# Altium schematic symbol library MCU_ST_STM32L4+.SchLib: 37 symbols (part 2 of 2)
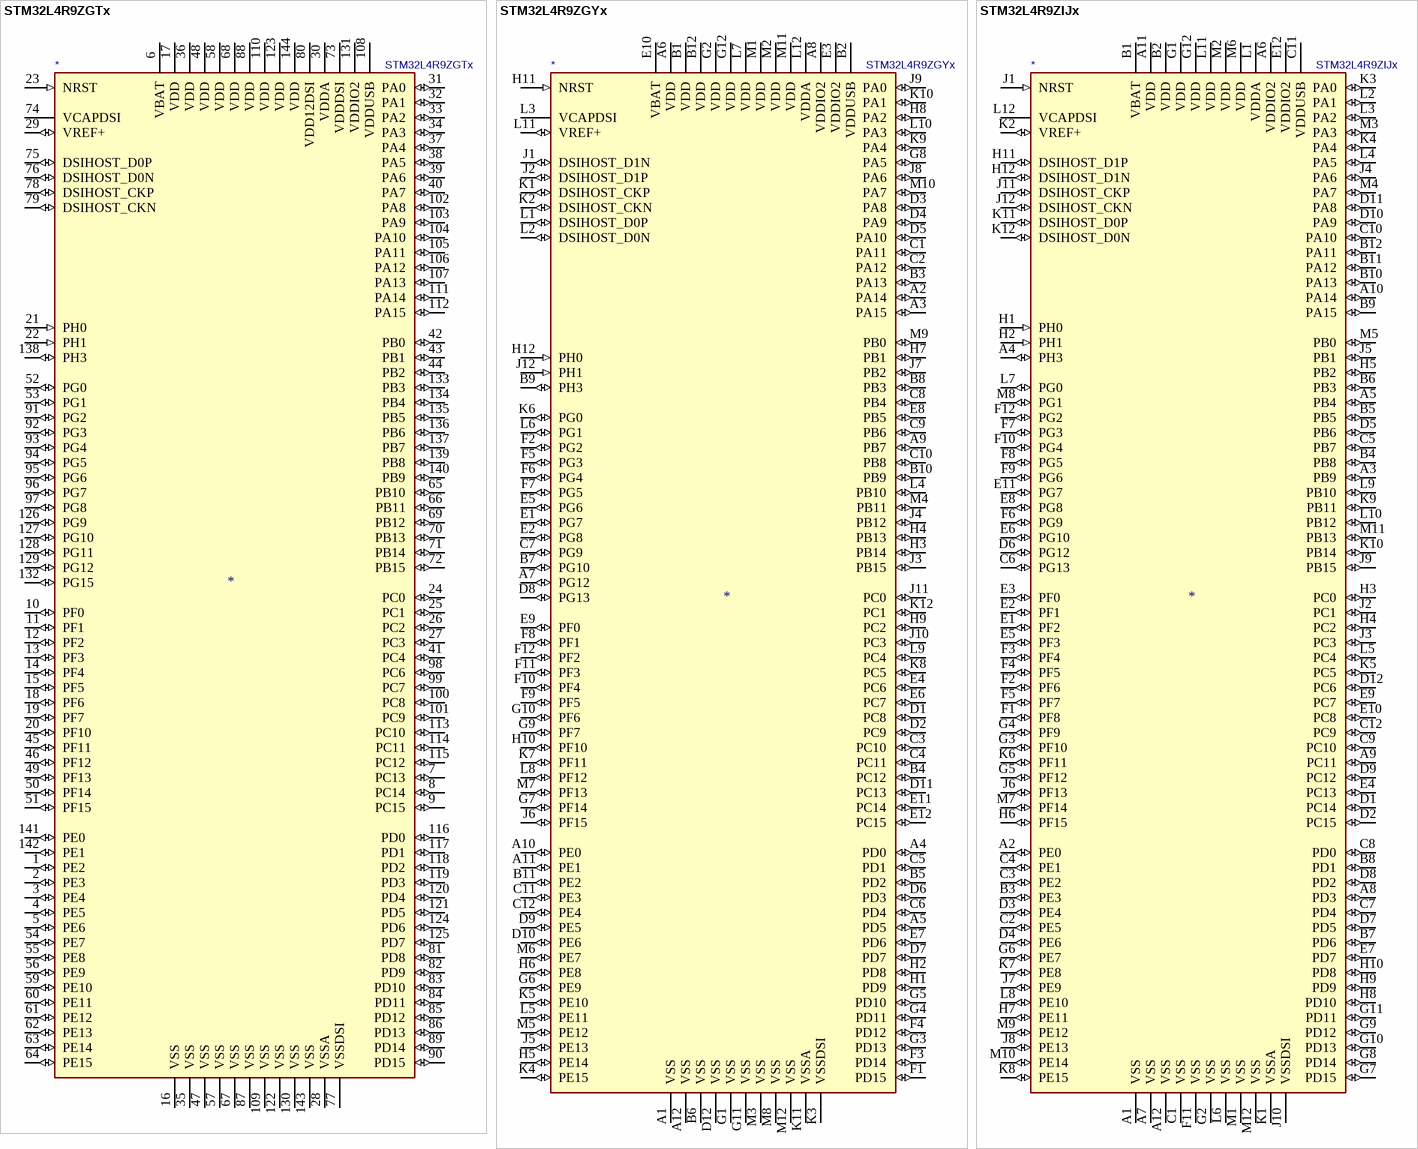
[diagram p12: symbols STM32L4R9ZGTx to STM32L4R9ZIJx]

## STM32L4R9ZGYx
designator *  value STM32L4R9ZGYx
ki_keywords: ARM Cortex-M4 STM32L4+ STM32L4R9/S9; ki_description: ARM Cortex-M4 MCU, 1024KB flash, 640KB RAM, 120MHz, 1.71-3.6V, 110 GPIO, WLCSP-144; ki_fp_filters: ST_WLCSP*Die470*; Footprint: Package_CSP:ST_WLCSP-144_Die470; Supplier: http://www.st.com/st-web-ui/static/active/en/resource/technical/document/datasheet/DM00366448.pdf
footprint ST_WLCSP-144_Die470
pins: A1 VSS (power), A2 PA14 (io), A3 PA15 (io), A4 PD0 (io), A5 PD5 (io), A6 VDD (power), A7 PG12 (io), A8 VDDIO2 (power), A9 PB7 (io), A10 PE0 (io), A11 PE1 (io), A12 VSS (power), B1 VDD (power), B2 VDDUSB (power), B3 PA13 (io), B4 PC12 (io), B5 PD2 (io), B6 VSS (power), B7 PG10 (io), B8 PB3 (io), B9 PH3 (io), B10 PB9 (io), B11 PE2 (io), B12 VDD (power), C1 PA11 (io), C2 PA12 (io), C3 PC10 (io), C4 PC11 (io), C5 PD1 (io), C6 PD4 (io), C7 PG9 (io), C8 PB4 (io), C9 PB6 (io), C10 PB8 (io), C11 PE3 (io), C12 PE4 (io), D1 PC8 (io), D2 PC9 (io), D3 PA8 (io), D4 PA9 (io), D5 PA10 (io), D6 PD3 (io), D7 PD7 (io), D8 PG13 (io), D9 PE5 (io), D10 PE6 (io), D11 PC13 (io), D12 VSS (power), E1 PG7 (io), E2 PG8 (io), E3 VDDIO2 (power), E4 PC6 (io), E5 PG6 (io), E6 PC7 (io), E7 PD6 (io), E8 PB5 (io), E9 PF0 (io), E10 VBAT (power), E11 PC14 (io), E12 PC15 (io), F1 PD15 (io), F2 PG2 (io), F3 PD14 (io), F4 PD12 (io), F5 PG3 (io), F6 PG4 (io), F7 PG5 (io), F8 PF1 (io), F9 PF5 (io), F10 PF4 (io), F11 PF3 (io), F12 PF2 (io), G1 VSS (power), G2 VDD (power), G3 PD13 (io), G4 PD11 (io), G5 PD10 (io), G6 PE9 (io), G7 PF14 (io), G8 PA5 (io), G9 PF7 (io), G10 PF6 (io), G11 VSS (power), G12 VDD (power), H1 PD9 (io), H2 PD8 (io), H3 PB14 (io), H4 PB13 (io), H5 PE14 (io), H6 PE8 (io), H7 PB1 (io), H8 PA2 (io), H9 PC2 (io), H10 PF10 (io), H11 NRST (in), H12 PH0 (in), J1 DSIHOST_D1N (io), J2 DSIHOST_D1P (io), J3 PB15 (io), J4 PB12 (io), J5 PE13 (io), J6 PF15 (io), J7 PB2 (io), J8 PA6 (io), J9 PA0 (io), J10 PC3 (io), J11 PC0 (io), J12 PH1 (in), K1 DSIHOST_CKP (io), K2 DSIHOST_CKN (io), K3 VSSDSI (power), K4 PE15 (io), K5 PE10 (io), K6 PG0 (io), K7 PF11 (io), K8 PC5 (io), K9 PA4 (io), K10 PA1 (io), K11 VSSA (power), K12 PC1 (io), L1 DSIHOST_D0P (io), L2 DSIHOST_D0N (io), L3 VCAPDSI (power), L4 PB10 (io), L5 PE11 (io), L6 PG1 (io), L7 VDD (power), L8 PF12 (io), L9 PC4 (io), L10 PA3 (io), L11 VREF+ (io), L12 VDDA (power), M1 VDD (power), M2 VDD (power), M3 VSS (power), M4 PB11 (io), M5 PE12 (io), M6 PE7 (io), M7 PF13 (io), M8 VSS (power), M9 PB0 (io), M10 PA7 (io), M11 VDD (power), M12 VSS (power)

## STM32L4R9ZIJx
designator *  value STM32L4R9ZIJx
ki_keywords: ARM Cortex-M4 STM32L4+ STM32L4R9/S9; ki_description: ARM Cortex-M4 MCU, 2048KB flash, 640KB RAM, 120MHz, 1.71-3.6V, 112 GPIO, UFBGA-144; ki_fp_filters: UFBGA*10x10mm*Layout12x12*P0.8mm*; Footprint: Package_BGA:UFBGA-144_10x10mm_Layout12x12_P0.8mm; Supplier: http://www.st.com/st-web-ui/static/active/en/resource/technical/document/datasheet/DM00366448.pdf
footprint UFBGA-144_10x10mm_Layout12x12_P0.8mm
pins: A1 VSS (power), A2 PE0 (io), A3 PB9 (io), A4 PH3 (io), A5 PB4 (io), A6 VDDIO2 (power), A7 VSS (power), A8 PD3 (io), A9 PC11 (io), A10 PA14 (io), A11 VDD (power), A12 VSS (power), B1 VBAT (power), B2 VDD (power), B3 PE3 (io), B4 PB8 (io), B5 PB5 (io), B6 PB3 (io), B7 PD6 (io), B8 PD1 (io), B9 PA15 (io), B10 PA13 (io), B11 PA12 (io), B12 PA11 (io), C1 VSS (power), C2 PE5 (io), C3 PE2 (io), C4 PE1 (io), C5 PB7 (io), C6 PG13 (io), C7 PD4 (io), C8 PD0 (io), C9 PC10 (io), C10 PA10 (io), C11 VDDUSB (power), C12 PC9 (io), D1 PC14 (io), D2 PC15 (io), D3 PE4 (io), D4 PE6 (io), D5 PB6 (io), D6 PG12 (io), D7 PD5 (io), D8 PD2 (io), D9 PC12 (io), D10 PA9 (io), D11 PA8 (io), D12 PC6 (io), E1 PF2 (io), E2 PF1 (io), E3 PF0 (io), E4 PC13 (io), E5 PF3 (io), E6 PG10 (io), E7 PD7 (io), E8 PG8 (io), E9 PC7 (io), E10 PC8 (io), E11 PG7 (io), E12 VDDIO2 (power), F1 PF8 (io), F2 PF6 (io), F3 PF4 (io), F4 PF5 (io), F5 PF7 (io), F6 PG9 (io), F7 PG3 (io), F8 PG5 (io), F9 PG6 (io), F10 PG4 (io), F11 VSS (power), F12 PG2 (io), G1 VDD (power), G2 VSS (power), G3 PF10 (io), G4 PF9 (io), G5 PF12 (io), G6 PE7 (io), G7 PD15 (io), G8 PD14 (io), G9 PD12 (io), G10 PD13 (io), G11 PD11 (io), G12 VDD (power), H1 PH0 (in), H2 PH1 (in), H3 PC0 (io), H4 PC2 (io), H5 PB2 (io), H6 PF15 (io), H7 PE11 (io), H8 PD10 (io), H9 PD9 (io), H10 PD8 (io), H11 DSIHOST_D1P (io), H12 DSIHOST_D1N (io), J1 NRST (in), J2 PC1 (io), J3 PC3 (io), J4 PA6 (io), J5 PB1 (io), J6 PF13 (io), J7 PE9 (io), J8 PE13 (io), J9 PB15 (io), J10 VSSDSI (power), J11 DSIHOST_CKP (io), J12 DSIHOST_CKN (io), K1 VSSA (power), K2 VREF+ (io), K3 PA0 (io), K4 PA4 (io), K5 PC5 (io), K6 PF11 (io), K7 PE8 (io), K8 PE15 (io), K9 PB11 (io), K10 PB14 (io), K11 DSIHOST_D0P (io), K12 DSIHOST_D0N (io), L1 VDDA (power), L2 PA1 (io), L3 PA2 (io), L4 PA5 (io), L5 PC4 (io), L6 VSS (power), L7 PG0 (io), L8 PE10 (io), L9 PB10 (io), L10 PB12 (io), L11 VDD (power), L12 VCAPDSI (power), M1 VSS (power), M2 VDD (power), M3 PA3 (io), M4 PA7 (io), M5 PB0 (io), M6 VDD (power), M7 PF14 (io), M8 PG1 (io), M9 PE12 (io), M10 PE14 (io), M11 PB13 (io), M12 VSS (power)

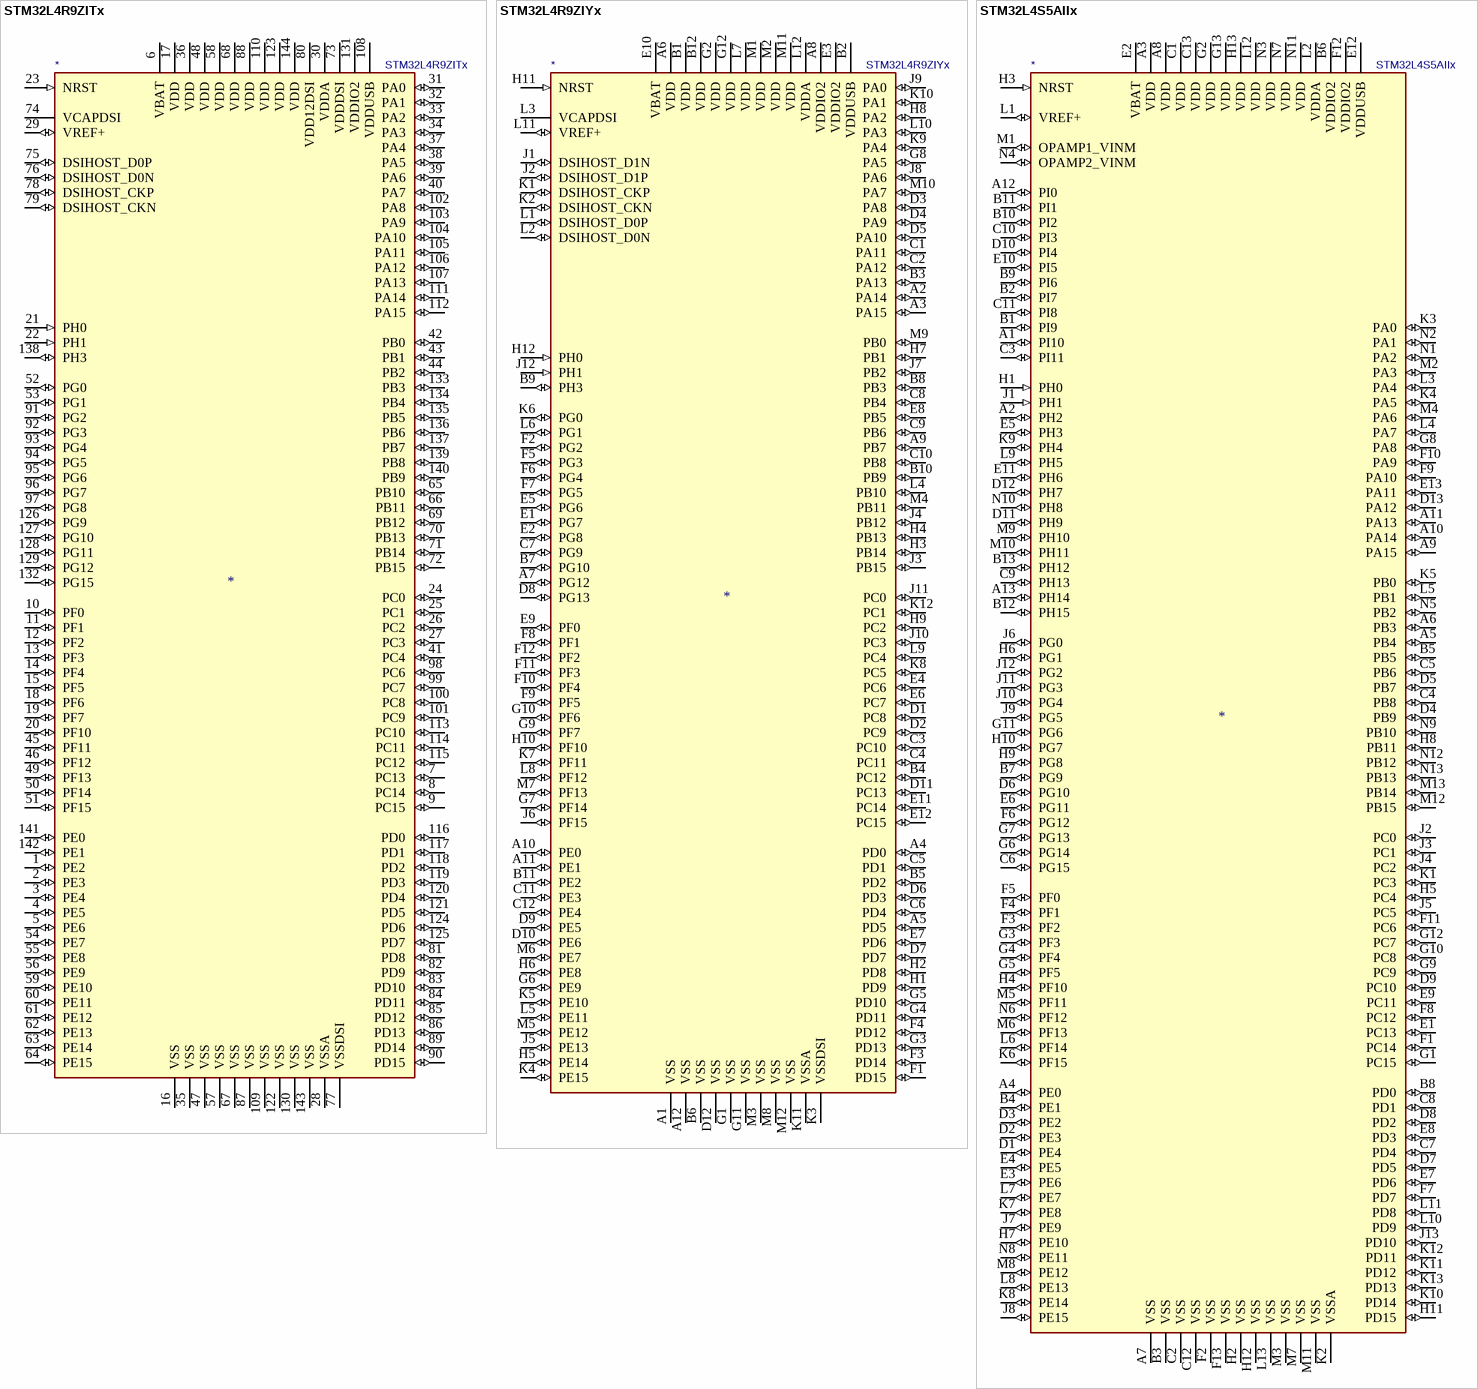
[diagram p7: symbols STM32L4R9ZITx to STM32L4S5AIIx]

## STM32L4R9ZITx
designator *  value STM32L4R9ZITx
ki_keywords: ARM Cortex-M4 STM32L4+ STM32L4R9/S9; ki_description: ARM Cortex-M4 MCU, 2048KB flash, 640KB RAM, 120MHz, 1.71-3.6V, 110 GPIO, LQFP-144; ki_fp_filters: LQFP*20x20mm*P0.5mm*; Footprint: Package_QFP:LQFP-144_20x20mm_P0.5mm; Supplier: http://www.st.com/st-web-ui/static/active/en/resource/technical/document/datasheet/DM00366448.pdf
footprint LQFP-144_20x20mm_P0.5mm
pins: 1 PE2 (io), 2 PE3 (io), 3 PE4 (io), 4 PE5 (io), 5 PE6 (io), 6 VBAT (power), 7 PC13 (io), 8 PC14 (io), 9 PC15 (io), 10 PF0 (io), 11 PF1 (io), 12 PF2 (io), 13 PF3 (io), 14 PF4 (io), 15 PF5 (io), 16 VSS (power), 17 VDD (power), 18 PF6 (io), 19 PF7 (io), 20 PF10 (io), 21 PH0 (in), 22 PH1 (in), 23 NRST (in), 24 PC0 (io), 25 PC1 (io), 26 PC2 (io), 27 PC3 (io), 28 VSSA (power), 29 VREF+ (io), 30 VDDA (power), 31 PA0 (io), 32 PA1 (io), 33 PA2 (io), 34 PA3 (io), 35 VSS (power), 36 VDD (power), 37 PA4 (io), 38 PA5 (io), 39 PA6 (io), 40 PA7 (io), 41 PC4 (io), 42 PB0 (io), 43 PB1 (io), 44 PB2 (io), 45 PF11 (io), 46 PF12 (io), 47 VSS (power), 48 VDD (power), 49 PF13 (io), 50 PF14 (io), 51 PF15 (io), 52 PG0 (io), 53 PG1 (io), 54 PE7 (io), 55 PE8 (io), 56 PE9 (io), 57 VSS (power), 58 VDD (power), 59 PE10 (io), 60 PE11 (io), 61 PE12 (io), 62 PE13 (io), 63 PE14 (io), 64 PE15 (io), 65 PB10 (io), 66 PB11 (io), 67 VSS (power), 68 VDD (power), 69 PB12 (io), 70 PB13 (io), 71 PB14 (io), 72 PB15 (io), 73 VDDDSI (power), 74 VCAPDSI (power), 75 DSIHOST_D0P (io), 76 DSIHOST_D0N (io), 77 VSSDSI (power), 78 DSIHOST_CKP (io), 79 DSIHOST_CKN (io), 80 VDD12DSI (power), 81 PD8 (io), 82 PD9 (io), 83 PD10 (io), 84 PD11 (io), 85 PD12 (io), 86 PD13 (io), 87 VSS (power), 88 VDD (power), 89 PD14 (io), 90 PD15 (io), 91 PG2 (io), 92 PG3 (io), 93 PG4 (io), 94 PG5 (io), 95 PG6 (io), 96 PG7 (io), 97 PG8 (io), 98 PC6 (io), 99 PC7 (io), 100 PC8 (io), 101 PC9 (io), 102 PA8 (io), 103 PA9 (io), 104 PA10 (io), 105 PA11 (io), 106 PA12 (io), 107 PA13 (io), 108 VDDUSB (power), 109 VSS (power), 110 VDD (power), 111 PA14 (io), 112 PA15 (io), 113 PC10 (io), 114 PC11 (io), 115 PC12 (io), 116 PD0 (io), 117 PD1 (io), 118 PD2 (io), 119 PD3 (io), 120 PD4 (io), 121 PD5 (io), 122 VSS (power), 123 VDD (power), 124 PD6 (io), 125 PD7 (io), 126 PG9 (io), 127 PG10 (io), 128 PG11 (io), 129 PG12 (io), 130 VSS (power), 131 VDDIO2 (power), 132 PG15 (io), 133 PB3 (io), 134 PB4 (io), 135 PB5 (io), 136 PB6 (io), 137 PB7 (io), 138 PH3 (io), 139 PB8 (io), 140 PB9 (io), 141 PE0 (io), 142 PE1 (io), 143 VSS (power), 144 VDD (power)

## STM32L4R9ZIYx
designator *  value STM32L4R9ZIYx
ki_keywords: ARM Cortex-M4 STM32L4+ STM32L4R9/S9; ki_description: ARM Cortex-M4 MCU, 2048KB flash, 640KB RAM, 120MHz, 1.71-3.6V, 110 GPIO, WLCSP-144; ki_fp_filters: ST_WLCSP*Die470*; Footprint: Package_CSP:ST_WLCSP-144_Die470; Supplier: http://www.st.com/st-web-ui/static/active/en/resource/technical/document/datasheet/DM00366448.pdf
footprint ST_WLCSP-144_Die470
pins: A1 VSS (power), A2 PA14 (io), A3 PA15 (io), A4 PD0 (io), A5 PD5 (io), A6 VDD (power), A7 PG12 (io), A8 VDDIO2 (power), A9 PB7 (io), A10 PE0 (io), A11 PE1 (io), A12 VSS (power), B1 VDD (power), B2 VDDUSB (power), B3 PA13 (io), B4 PC12 (io), B5 PD2 (io), B6 VSS (power), B7 PG10 (io), B8 PB3 (io), B9 PH3 (io), B10 PB9 (io), B11 PE2 (io), B12 VDD (power), C1 PA11 (io), C2 PA12 (io), C3 PC10 (io), C4 PC11 (io), C5 PD1 (io), C6 PD4 (io), C7 PG9 (io), C8 PB4 (io), C9 PB6 (io), C10 PB8 (io), C11 PE3 (io), C12 PE4 (io), D1 PC8 (io), D2 PC9 (io), D3 PA8 (io), D4 PA9 (io), D5 PA10 (io), D6 PD3 (io), D7 PD7 (io), D8 PG13 (io), D9 PE5 (io), D10 PE6 (io), D11 PC13 (io), D12 VSS (power), E1 PG7 (io), E2 PG8 (io), E3 VDDIO2 (power), E4 PC6 (io), E5 PG6 (io), E6 PC7 (io), E7 PD6 (io), E8 PB5 (io), E9 PF0 (io), E10 VBAT (power), E11 PC14 (io), E12 PC15 (io), F1 PD15 (io), F2 PG2 (io), F3 PD14 (io), F4 PD12 (io), F5 PG3 (io), F6 PG4 (io), F7 PG5 (io), F8 PF1 (io), F9 PF5 (io), F10 PF4 (io), F11 PF3 (io), F12 PF2 (io), G1 VSS (power), G2 VDD (power), G3 PD13 (io), G4 PD11 (io), G5 PD10 (io), G6 PE9 (io), G7 PF14 (io), G8 PA5 (io), G9 PF7 (io), G10 PF6 (io), G11 VSS (power), G12 VDD (power), H1 PD9 (io), H2 PD8 (io), H3 PB14 (io), H4 PB13 (io), H5 PE14 (io), H6 PE8 (io), H7 PB1 (io), H8 PA2 (io), H9 PC2 (io), H10 PF10 (io), H11 NRST (in), H12 PH0 (in), J1 DSIHOST_D1N (io), J2 DSIHOST_D1P (io), J3 PB15 (io), J4 PB12 (io), J5 PE13 (io), J6 PF15 (io), J7 PB2 (io), J8 PA6 (io), J9 PA0 (io), J10 PC3 (io), J11 PC0 (io), J12 PH1 (in), K1 DSIHOST_CKP (io), K2 DSIHOST_CKN (io), K3 VSSDSI (power), K4 PE15 (io), K5 PE10 (io), K6 PG0 (io), K7 PF11 (io), K8 PC5 (io), K9 PA4 (io), K10 PA1 (io), K11 VSSA (power), K12 PC1 (io), L1 DSIHOST_D0P (io), L2 DSIHOST_D0N (io), L3 VCAPDSI (power), L4 PB10 (io), L5 PE11 (io), L6 PG1 (io), L7 VDD (power), L8 PF12 (io), L9 PC4 (io), L10 PA3 (io), L11 VREF+ (io), L12 VDDA (power), M1 VDD (power), M2 VDD (power), M3 VSS (power), M4 PB11 (io), M5 PE12 (io), M6 PE7 (io), M7 PF13 (io), M8 VSS (power), M9 PB0 (io), M10 PA7 (io), M11 VDD (power), M12 VSS (power)

## STM32L4S5AIIx
designator *  value STM32L4S5AIIx
ki_keywords: ARM Cortex-M4 STM32L4+ STM32L4R5/S5; ki_description: ARM Cortex-M4 MCU, 2048KB flash, 640KB RAM, 120MHz, 1.71-3.6V, 136 GPIO, UFBGA-169; ki_fp_filters: UFBGA*7x7mm*Layout13x13*P0.5mm*; Footprint: Package_BGA:UFBGA-169_7x7mm_Layout13x13_P0.5mm; Supplier: http://www.st.com/st-web-ui/static/active/en/resource/technical/document/datasheet/DM00366449.pdf
footprint UFBGA-169_7x7mm_Layout13x13_P0.5mm
pins: A1 PI10 (io), A2 PH2 (io), A3 VDD (power), A4 PE0 (io), A5 PB4 (io), A6 PB3 (io), A7 VSS (power), A8 VDD (power), A9 PA15 (io), A10 PA14 (io), A11 PA13 (io), A12 PI0 (io), A13 PH14 (io), B1 PI9 (io), B2 PI7 (io), B3 VSS (power), B4 PE1 (io), B5 PB5 (io), B6 VDDIO2 (power), B7 PG9 (io), B8 PD0 (io), B9 PI6 (io), B10 PI2 (io), B11 PI1 (io), B12 PH15 (io), B13 PH12 (io), C1 VDD (power), C2 VSS (power), C3 PI11 (io), C4 PB8 (io), C5 PB6 (io), C6 PG15 (io), C7 PD4 (io), C8 PD1 (io), C9 PH13 (io), C10 PI3 (io), C11 PI8 (io), C12 VSS (power), C13 VDD (power), D1 PE4 (io), D2 PE3 (io), D3 PE2 (io), D4 PB9 (io), D5 PB7 (io), D6 PG10 (io), D7 PD5 (io), D8 PD2 (io), D9 PC10 (io), D10 PI4 (io), D11 PH9 (io), D12 PH7 (io), D13 PA12 (io), E1 PC13 (io), E2 VBAT (power), E3 PE6 (io), E4 PE5 (io), E5 PH3 (io), E6 PG11 (io), E7 PD6 (io), E8 PD3 (io), E9 PC11 (io), E10 PI5 (io), E11 PH6 (io), E12 VDDUSB (power), E13 PA11 (io), F1 PC14 (io), F2 VSS (power), F3 PF2 (io), F4 PF1 (io), F5 PF0 (io), F6 PG12 (io), F7 PD7 (io), F8 PC12 (io), F9 PA10 (io), F10 PA9 (io), F11 PC6 (io), F12 VDDIO2 (power), F13 VSS (power), G1 PC15 (io), G2 VDD (power), G3 PF3 (io), G4 PF4 (io), G5 PF5 (io), G6 PG14 (io), G7 PG13 (io), G8 PA8 (io), G9 PC9 (io), G10 PC8 (io), G11 PG6 (io), G12 PC7 (io), G13 VDD (power), H1 PH0 (in), H2 VSS (power), H3 NRST (in), H4 PF10 (io), H5 PC4 (io), H6 PG1 (io), H7 PE10 (io), H8 PB11 (io), H9 PG8 (io), H10 PG7 (io), H11 PD15 (io), H12 VSS (power), H13 VDD (power), J1 PH1 (in), J2 PC0 (io), J3 PC1 (io), J4 PC2 (io), J5 PC5 (io), J6 PG0 (io), J7 PE9 (io), J8 PE15 (io), J9 PG5 (io), J10 PG4 (io), J11 PG3 (io), J12 PG2 (io), J13 PD10 (io), K1 PC3 (io), K2 VSSA (power), K3 PA0 (io), K4 PA5 (io), K5 PB0 (io), K6 PF15 (io), K7 PE8 (io), K8 PE14 (io), K9 PH4 (io), K10 PD14 (io), K11 PD12 (io), K12 PD11 (io), K13 PD13 (io), L1 VREF+ (io), L2 VDDA (power), L3 PA4 (io), L4 PA7 (io), L5 PB1 (io), L6 PF14 (io), L7 PE7 (io), L8 PE13 (io), L9 PH5 (io), L10 PD9 (io), L11 PD8 (io), L12 VDD (power), L13 VSS (power), M1 OPAMP1_VINM (io), M2 PA3 (io), M3 VSS (power), M4 PA6 (io), M5 PF11 (io), M6 PF13 (io), M7 VSS (power), M8 PE12 (io), M9 PH10 (io), M10 PH11 (io), M11 VSS (power), M12 PB15 (io), M13 PB14 (io), N1 PA2 (io), N2 PA1 (io), N3 VDD (power), N4 OPAMP2_VINM (io), N5 PB2 (io), N6 PF12 (io), N7 VDD (power), N8 PE11 (io), N9 PB10 (io), N10 PH8 (io), N11 VDD (power), N12 PB12 (io), N13 PB13 (io)

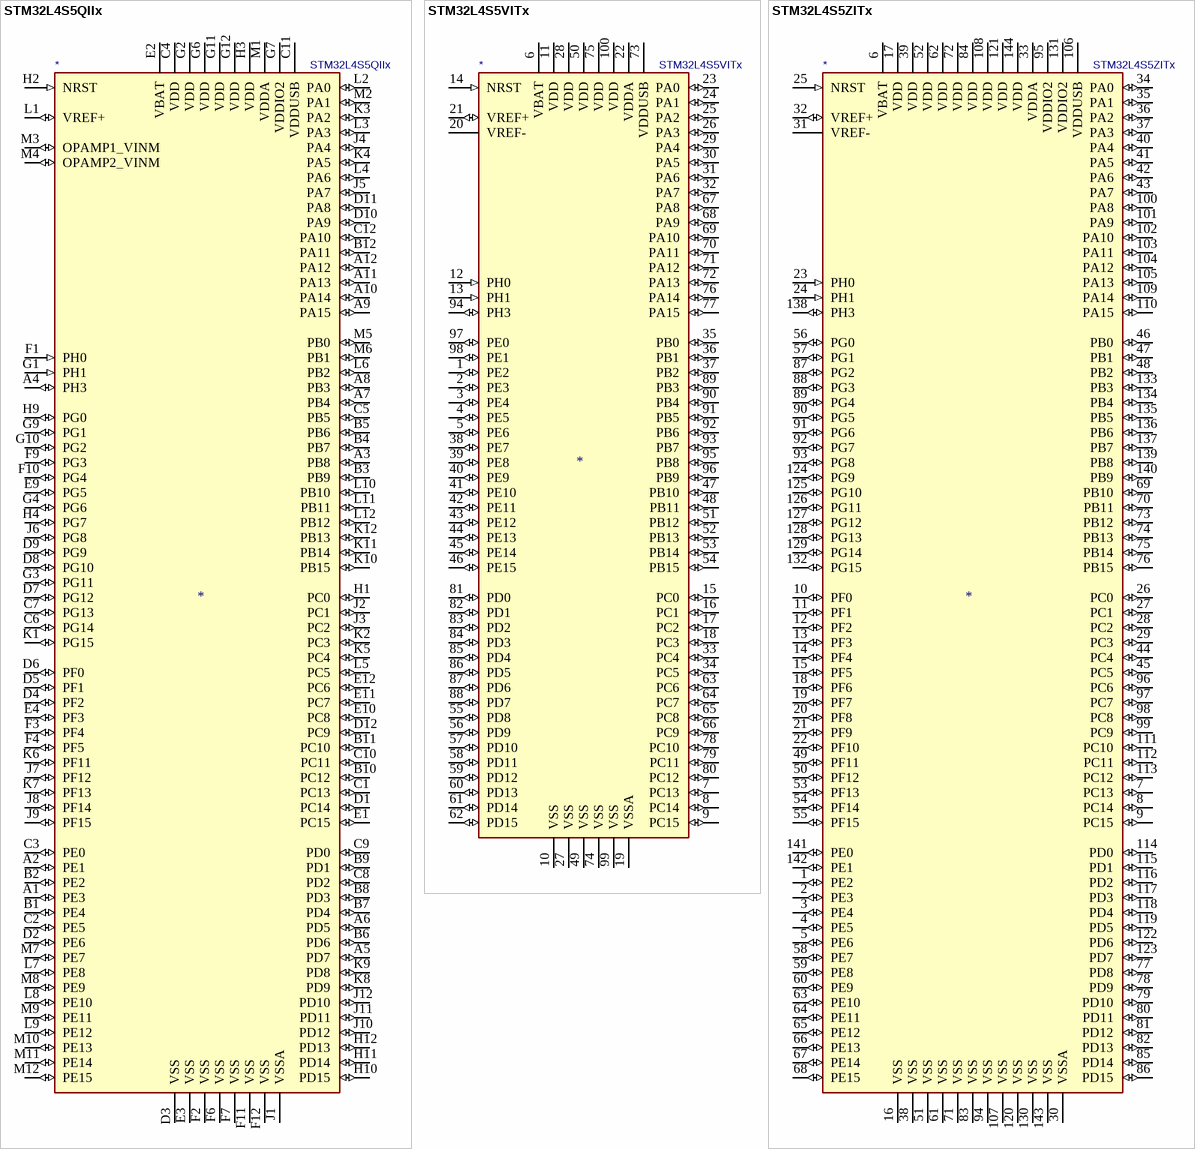
[diagram p8: symbols STM32L4S5QIIx to STM32L4S5ZITx]

## STM32L4S5QIIx
designator *  value STM32L4S5QIIx
ki_keywords: ARM Cortex-M4 STM32L4+ STM32L4R5/S5; ki_description: ARM Cortex-M4 MCU, 2048KB flash, 640KB RAM, 120MHz, 1.71-3.6V, 110 GPIO, UFBGA-132; ki_fp_filters: UFBGA*7x7mm*Layout12x12*P0.5mm*; Footprint: Package_BGA:UFBGA-132_7x7mm_Layout12x12_P0.5mm; Supplier: http://www.st.com/st-web-ui/static/active/en/resource/technical/document/datasheet/DM00366449.pdf
footprint UFBGA-132_7x7mm_Layout12x12_P0.5mm
pins: A1 PE3 (io), A2 PE1 (io), A3 PB8 (io), A4 PH3 (io), A5 PD7 (io), A6 PD5 (io), A7 PB4 (io), A8 PB3 (io), A9 PA15 (io), A10 PA14 (io), A11 PA13 (io), A12 PA12 (io), B1 PE4 (io), B2 PE2 (io), B3 PB9 (io), B4 PB7 (io), B5 PB6 (io), B6 PD6 (io), B7 PD4 (io), B8 PD3 (io), B9 PD1 (io), B10 PC12 (io), B11 PC10 (io), B12 PA11 (io), C1 PC13 (io), C2 PE5 (io), C3 PE0 (io), C4 VDD (power), C5 PB5 (io), C6 PG14 (io), C7 PG13 (io), C8 PD2 (io), C9 PD0 (io), C10 PC11 (io), C11 VDDUSB (power), C12 PA10 (io), D1 PC14 (io), D2 PE6 (io), D3 VSS (power), D4 PF2 (io), D5 PF1 (io), D6 PF0 (io), D7 PG12 (io), D8 PG10 (io), D9 PG9 (io), D10 PA9 (io), D11 PA8 (io), D12 PC9 (io), E1 PC15 (io), E2 VBAT (power), E3 VSS (power), E4 PF3 (io), E9 PG5 (io), E10 PC8 (io), E11 PC7 (io), E12 PC6 (io), F1 PH0 (in), F2 VSS (power), F3 PF4 (io), F4 PF5 (io), F6 VSS (power), F7 VSS (power), F9 PG3 (io), F10 PG4 (io), F11 VSS (power), F12 VSS (power), G1 PH1 (in), G2 VDD (power), G3 PG11 (io), G4 PG6 (io), G6 VDD (power), G7 VDDIO2 (power), G9 PG1 (io), G10 PG2 (io), G11 VDD (power), G12 VDD (power), H1 PC0 (io), H2 NRST (in), H3 VDD (power), H4 PG7 (io), H9 PG0 (io), H10 PD15 (io), H11 PD14 (io), H12 PD13 (io), J1 VSSA (power), J2 PC1 (io), J3 PC2 (io), J4 PA4 (io), J5 PA7 (io), J6 PG8 (io), J7 PF12 (io), J8 PF14 (io), J9 PF15 (io), J10 PD12 (io), J11 PD11 (io), J12 PD10 (io), K1 PG15 (io), K2 PC3 (io), K3 PA2 (io), K4 PA5 (io), K5 PC4 (io), K6 PF11 (io), K7 PF13 (io), K8 PD9 (io), K9 PD8 (io), K10 PB15 (io), K11 PB14 (io), K12 PB13 (io), L1 VREF+ (io), L2 PA0 (io), L3 PA3 (io), L4 PA6 (io), L5 PC5 (io), L6 PB2 (io), L7 PE8 (io), L8 PE10 (io), L9 PE12 (io), L10 PB10 (io), L11 PB11 (io), L12 PB12 (io), M1 VDDA (power), M2 PA1 (io), M3 OPAMP1_VINM (io), M4 OPAMP2_VINM (io), M5 PB0 (io), M6 PB1 (io), M7 PE7 (io), M8 PE9 (io), M9 PE11 (io), M10 PE13 (io), M11 PE14 (io), M12 PE15 (io)

## STM32L4S5VITx
designator *  value STM32L4S5VITx
ki_keywords: ARM Cortex-M4 STM32L4+ STM32L4R5/S5; ki_description: ARM Cortex-M4 MCU, 2048KB flash, 640KB RAM, 120MHz, 1.71-3.6V, 83 GPIO, LQFP-100; ki_fp_filters: LQFP*14x14mm*P0.5mm*; Footprint: Package_QFP:LQFP-100_14x14mm_P0.5mm; Supplier: http://www.st.com/st-web-ui/static/active/en/resource/technical/document/datasheet/DM00366449.pdf
footprint LQFP-100_14x14mm_P0.5mm
pins: 1 PE2 (io), 2 PE3 (io), 3 PE4 (io), 4 PE5 (io), 5 PE6 (io), 6 VBAT (power), 7 PC13 (io), 8 PC14 (io), 9 PC15 (io), 10 VSS (power), 11 VDD (power), 12 PH0 (in), 13 PH1 (in), 14 NRST (in), 15 PC0 (io), 16 PC1 (io), 17 PC2 (io), 18 PC3 (io), 19 VSSA (power), 20 VREF- (power), 21 VREF+ (io), 22 VDDA (power), 23 PA0 (io), 24 PA1 (io), 25 PA2 (io), 26 PA3 (io), 27 VSS (power), 28 VDD (power), 29 PA4 (io), 30 PA5 (io), 31 PA6 (io), 32 PA7 (io), 33 PC4 (io), 34 PC5 (io), 35 PB0 (io), 36 PB1 (io), 37 PB2 (io), 38 PE7 (io), 39 PE8 (io), 40 PE9 (io), 41 PE10 (io), 42 PE11 (io), 43 PE12 (io), 44 PE13 (io), 45 PE14 (io), 46 PE15 (io), 47 PB10 (io), 48 PB11 (io), 49 VSS (power), 50 VDD (power), 51 PB12 (io), 52 PB13 (io), 53 PB14 (io), 54 PB15 (io), 55 PD8 (io), 56 PD9 (io), 57 PD10 (io), 58 PD11 (io), 59 PD12 (io), 60 PD13 (io), 61 PD14 (io), 62 PD15 (io), 63 PC6 (io), 64 PC7 (io), 65 PC8 (io), 66 PC9 (io), 67 PA8 (io), 68 PA9 (io), 69 PA10 (io), 70 PA11 (io), 71 PA12 (io), 72 PA13 (io), 73 VDDUSB (power), 74 VSS (power), 75 VDD (power), 76 PA14 (io), 77 PA15 (io), 78 PC10 (io), 79 PC11 (io), 80 PC12 (io), 81 PD0 (io), 82 PD1 (io), 83 PD2 (io), 84 PD3 (io), 85 PD4 (io), 86 PD5 (io), 87 PD6 (io), 88 PD7 (io), 89 PB3 (io), 90 PB4 (io), 91 PB5 (io), 92 PB6 (io), 93 PB7 (io), 94 PH3 (io), 95 PB8 (io), 96 PB9 (io), 97 PE0 (io), 98 PE1 (io), 99 VSS (power), 100 VDD (power)

## STM32L4S5ZITx
designator *  value STM32L4S5ZITx
ki_keywords: ARM Cortex-M4 STM32L4+ STM32L4R5/S5; ki_description: ARM Cortex-M4 MCU, 2048KB flash, 640KB RAM, 120MHz, 1.71-3.6V, 115 GPIO, LQFP-144; ki_fp_filters: LQFP*20x20mm*P0.5mm*; Footprint: Package_QFP:LQFP-144_20x20mm_P0.5mm; Supplier: http://www.st.com/st-web-ui/static/active/en/resource/technical/document/datasheet/DM00366449.pdf
footprint LQFP-144_20x20mm_P0.5mm
pins: 1 PE2 (io), 2 PE3 (io), 3 PE4 (io), 4 PE5 (io), 5 PE6 (io), 6 VBAT (power), 7 PC13 (io), 8 PC14 (io), 9 PC15 (io), 10 PF0 (io), 11 PF1 (io), 12 PF2 (io), 13 PF3 (io), 14 PF4 (io), 15 PF5 (io), 16 VSS (power), 17 VDD (power), 18 PF6 (io), 19 PF7 (io), 20 PF8 (io), 21 PF9 (io), 22 PF10 (io), 23 PH0 (in), 24 PH1 (in), 25 NRST (in), 26 PC0 (io), 27 PC1 (io), 28 PC2 (io), 29 PC3 (io), 30 VSSA (power), 31 VREF- (power), 32 VREF+ (io), 33 VDDA (power), 34 PA0 (io), 35 PA1 (io), 36 PA2 (io), 37 PA3 (io), 38 VSS (power), 39 VDD (power), 40 PA4 (io), 41 PA5 (io), 42 PA6 (io), 43 PA7 (io), 44 PC4 (io), 45 PC5 (io), 46 PB0 (io), 47 PB1 (io), 48 PB2 (io), 49 PF11 (io), 50 PF12 (io), 51 VSS (power), 52 VDD (power), 53 PF13 (io), 54 PF14 (io), 55 PF15 (io), 56 PG0 (io), 57 PG1 (io), 58 PE7 (io), 59 PE8 (io), 60 PE9 (io), 61 VSS (power), 62 VDD (power), 63 PE10 (io), 64 PE11 (io), 65 PE12 (io), 66 PE13 (io), 67 PE14 (io), 68 PE15 (io), 69 PB10 (io), 70 PB11 (io), 71 VSS (power), 72 VDD (power), 73 PB12 (io), 74 PB13 (io), 75 PB14 (io), 76 PB15 (io), 77 PD8 (io), 78 PD9 (io), 79 PD10 (io), 80 PD11 (io), 81 PD12 (io), 82 PD13 (io), 83 VSS (power), 84 VDD (power), 85 PD14 (io), 86 PD15 (io), 87 PG2 (io), 88 PG3 (io), 89 PG4 (io), 90 PG5 (io), 91 PG6 (io), 92 PG7 (io), 93 PG8 (io), 94 VSS (power), 95 VDDIO2 (power), 96 PC6 (io), 97 PC7 (io), 98 PC8 (io), 99 PC9 (io), 100 PA8 (io), 101 PA9 (io), 102 PA10 (io), 103 PA11 (io), 104 PA12 (io), 105 PA13 (io), 106 VDDUSB (power), 107 VSS (power), 108 VDD (power), 109 PA14 (io), 110 PA15 (io), 111 PC10 (io), 112 PC11 (io), 113 PC12 (io), 114 PD0 (io), 115 PD1 (io), 116 PD2 (io), 117 PD3 (io), 118 PD4 (io), 119 PD5 (io), 120 VSS (power), 121 VDD (power), 122 PD6 (io), 123 PD7 (io), 124 PG9 (io), 125 PG10 (io), 126 PG11 (io), 127 PG12 (io), 128 PG13 (io), 129 PG14 (io), 130 VSS (power), 131 VDDIO2 (power), 132 PG15 (io), 133 PB3 (io), 134 PB4 (io), 135 PB5 (io), 136 PB6 (io), 137 PB7 (io), 138 PH3 (io), 139 PB8 (io), 140 PB9 (io), 141 PE0 (io), 142 PE1 (io), 143 VSS (power), 144 VDD (power)

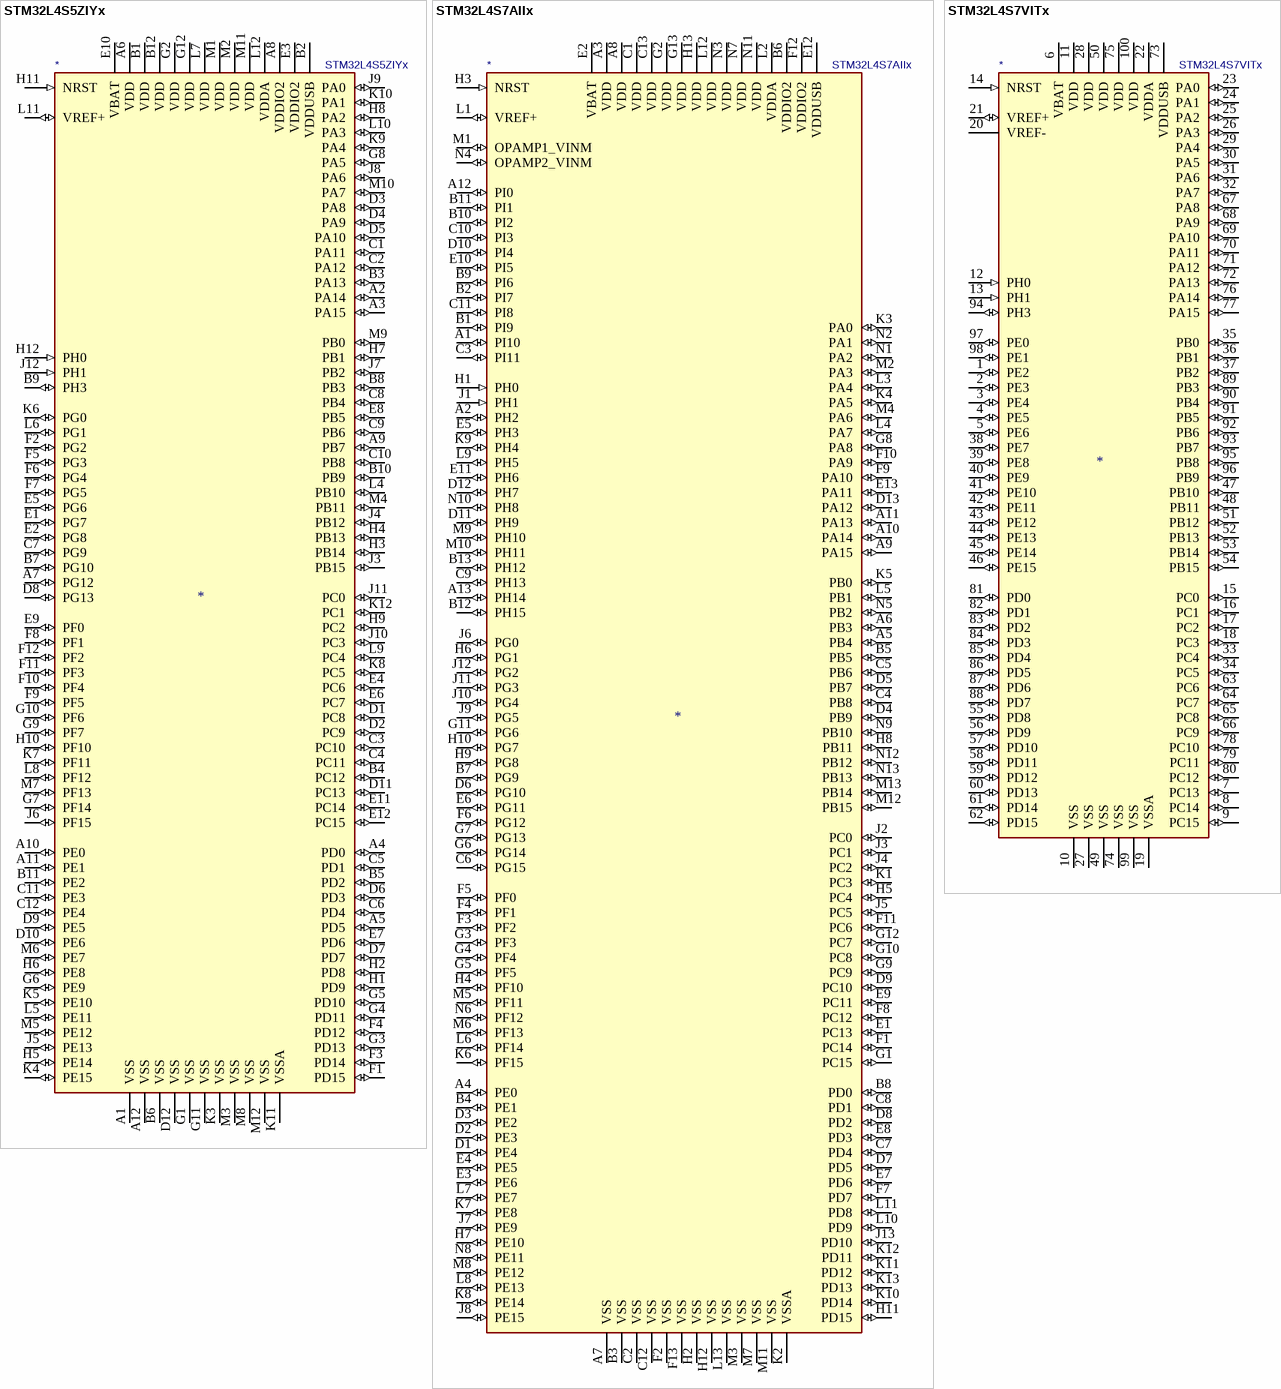
[diagram p9: symbols STM32L4S5ZIYx to STM32L4S7VITx]

## STM32L4S5ZIYx
designator *  value STM32L4S5ZIYx
ki_keywords: ARM Cortex-M4 STM32L4+ STM32L4R5/S5; ki_description: ARM Cortex-M4 MCU, 2048KB flash, 640KB RAM, 120MHz, 1.71-3.6V, 110 GPIO, WLCSP-144; ki_fp_filters: ST_WLCSP*Die470*; Footprint: Package_CSP:ST_WLCSP-144_Die470; Supplier: http://www.st.com/st-web-ui/static/active/en/resource/technical/document/datasheet/DM00366449.pdf
footprint ST_WLCSP-144_Die470
pins: A1 VSS (power), A2 PA14 (io), A3 PA15 (io), A4 PD0 (io), A5 PD5 (io), A6 VDD (power), A7 PG12 (io), A8 VDDIO2 (power), A9 PB7 (io), A10 PE0 (io), A11 PE1 (io), A12 VSS (power), B1 VDD (power), B2 VDDUSB (power), B3 PA13 (io), B4 PC12 (io), B5 PD2 (io), B6 VSS (power), B7 PG10 (io), B8 PB3 (io), B9 PH3 (io), B10 PB9 (io), B11 PE2 (io), B12 VDD (power), C1 PA11 (io), C2 PA12 (io), C3 PC10 (io), C4 PC11 (io), C5 PD1 (io), C6 PD4 (io), C7 PG9 (io), C8 PB4 (io), C9 PB6 (io), C10 PB8 (io), C11 PE3 (io), C12 PE4 (io), D1 PC8 (io), D2 PC9 (io), D3 PA8 (io), D4 PA9 (io), D5 PA10 (io), D6 PD3 (io), D7 PD7 (io), D8 PG13 (io), D9 PE5 (io), D10 PE6 (io), D11 PC13 (io), D12 VSS (power), E1 PG7 (io), E2 PG8 (io), E3 VDDIO2 (power), E4 PC6 (io), E5 PG6 (io), E6 PC7 (io), E7 PD6 (io), E8 PB5 (io), E9 PF0 (io), E10 VBAT (power), E11 PC14 (io), E12 PC15 (io), F1 PD15 (io), F2 PG2 (io), F3 PD14 (io), F4 PD12 (io), F5 PG3 (io), F6 PG4 (io), F7 PG5 (io), F8 PF1 (io), F9 PF5 (io), F10 PF4 (io), F11 PF3 (io), F12 PF2 (io), G1 VSS (power), G2 VDD (power), G3 PD13 (io), G4 PD11 (io), G5 PD10 (io), G6 PE9 (io), G7 PF14 (io), G8 PA5 (io), G9 PF7 (io), G10 PF6 (io), G11 VSS (power), G12 VDD (power), H1 PD9 (io), H2 PD8 (io), H3 PB14 (io), H4 PB13 (io), H5 PE14 (io), H6 PE8 (io), H7 PB1 (io), H8 PA2 (io), H9 PC2 (io), H10 PF10 (io), H11 NRST (in), H12 PH0 (in), J1 NC (in) hidden, J2 NC (in) hidden, J3 PB15 (io), J4 PB12 (io), J5 PE13 (io), J6 PF15 (io), J7 PB2 (io), J8 PA6 (io), J9 PA0 (io), J10 PC3 (io), J11 PC0 (io), J12 PH1 (in), K1 NC (in) hidden, K2 NC (in) hidden, K3 VSS (power), K4 PE15 (io), K5 PE10 (io), K6 PG0 (io), K7 PF11 (io), K8 PC5 (io), K9 PA4 (io), K10 PA1 (io), K11 VSSA (power), K12 PC1 (io), L1 NC (in) hidden, L2 NC (in) hidden, L3 NC (in) hidden, L4 PB10 (io), L5 PE11 (io), L6 PG1 (io), L7 VDD (power), L8 PF12 (io), L9 PC4 (io), L10 PA3 (io), L11 VREF+ (io), L12 VDDA (power), M1 VDD (power), M2 VDD (power), M3 VSS (power), M4 PB11 (io), M5 PE12 (io), M6 PE7 (io), M7 PF13 (io), M8 VSS (power), M9 PB0 (io), M10 PA7 (io), M11 VDD (power), M12 VSS (power)

## STM32L4S7AIIx
designator *  value STM32L4S7AIIx
ki_keywords: ARM Cortex-M4 STM32L4+ STM32L4R7/S7; ki_description: ARM Cortex-M4 MCU, 2048KB flash, 640KB RAM, 120MHz, 1.71-3.6V, 136 GPIO, UFBGA-169; ki_fp_filters: UFBGA*7x7mm*Layout13x13*P0.5mm*; Footprint: Package_BGA:UFBGA-169_7x7mm_Layout13x13_P0.5mm; Supplier: http://www.st.com/st-web-ui/static/active/en/resource/technical/document/datasheet/DM00366449.pdf
footprint UFBGA-169_7x7mm_Layout13x13_P0.5mm
pins: A1 PI10 (io), A2 PH2 (io), A3 VDD (power), A4 PE0 (io), A5 PB4 (io), A6 PB3 (io), A7 VSS (power), A8 VDD (power), A9 PA15 (io), A10 PA14 (io), A11 PA13 (io), A12 PI0 (io), A13 PH14 (io), B1 PI9 (io), B2 PI7 (io), B3 VSS (power), B4 PE1 (io), B5 PB5 (io), B6 VDDIO2 (power), B7 PG9 (io), B8 PD0 (io), B9 PI6 (io), B10 PI2 (io), B11 PI1 (io), B12 PH15 (io), B13 PH12 (io), C1 VDD (power), C2 VSS (power), C3 PI11 (io), C4 PB8 (io), C5 PB6 (io), C6 PG15 (io), C7 PD4 (io), C8 PD1 (io), C9 PH13 (io), C10 PI3 (io), C11 PI8 (io), C12 VSS (power), C13 VDD (power), D1 PE4 (io), D2 PE3 (io), D3 PE2 (io), D4 PB9 (io), D5 PB7 (io), D6 PG10 (io), D7 PD5 (io), D8 PD2 (io), D9 PC10 (io), D10 PI4 (io), D11 PH9 (io), D12 PH7 (io), D13 PA12 (io), E1 PC13 (io), E2 VBAT (power), E3 PE6 (io), E4 PE5 (io), E5 PH3 (io), E6 PG11 (io), E7 PD6 (io), E8 PD3 (io), E9 PC11 (io), E10 PI5 (io), E11 PH6 (io), E12 VDDUSB (power), E13 PA11 (io), F1 PC14 (io), F2 VSS (power), F3 PF2 (io), F4 PF1 (io), F5 PF0 (io), F6 PG12 (io), F7 PD7 (io), F8 PC12 (io), F9 PA10 (io), F10 PA9 (io), F11 PC6 (io), F12 VDDIO2 (power), F13 VSS (power), G1 PC15 (io), G2 VDD (power), G3 PF3 (io), G4 PF4 (io), G5 PF5 (io), G6 PG14 (io), G7 PG13 (io), G8 PA8 (io), G9 PC9 (io), G10 PC8 (io), G11 PG6 (io), G12 PC7 (io), G13 VDD (power), H1 PH0 (in), H2 VSS (power), H3 NRST (in), H4 PF10 (io), H5 PC4 (io), H6 PG1 (io), H7 PE10 (io), H8 PB11 (io), H9 PG8 (io), H10 PG7 (io), H11 PD15 (io), H12 VSS (power), H13 VDD (power), J1 PH1 (in), J2 PC0 (io), J3 PC1 (io), J4 PC2 (io), J5 PC5 (io), J6 PG0 (io), J7 PE9 (io), J8 PE15 (io), J9 PG5 (io), J10 PG4 (io), J11 PG3 (io), J12 PG2 (io), J13 PD10 (io), K1 PC3 (io), K2 VSSA (power), K3 PA0 (io), K4 PA5 (io), K5 PB0 (io), K6 PF15 (io), K7 PE8 (io), K8 PE14 (io), K9 PH4 (io), K10 PD14 (io), K11 PD12 (io), K12 PD11 (io), K13 PD13 (io), L1 VREF+ (io), L2 VDDA (power), L3 PA4 (io), L4 PA7 (io), L5 PB1 (io), L6 PF14 (io), L7 PE7 (io), L8 PE13 (io), L9 PH5 (io), L10 PD9 (io), L11 PD8 (io), L12 VDD (power), L13 VSS (power), M1 OPAMP1_VINM (io), M2 PA3 (io), M3 VSS (power), M4 PA6 (io), M5 PF11 (io), M6 PF13 (io), M7 VSS (power), M8 PE12 (io), M9 PH10 (io), M10 PH11 (io), M11 VSS (power), M12 PB15 (io), M13 PB14 (io), N1 PA2 (io), N2 PA1 (io), N3 VDD (power), N4 OPAMP2_VINM (io), N5 PB2 (io), N6 PF12 (io), N7 VDD (power), N8 PE11 (io), N9 PB10 (io), N10 PH8 (io), N11 VDD (power), N12 PB12 (io), N13 PB13 (io)

## STM32L4S7VITx
designator *  value STM32L4S7VITx
ki_keywords: ARM Cortex-M4 STM32L4+ STM32L4R7/S7; ki_description: ARM Cortex-M4 MCU, 2048KB flash, 640KB RAM, 120MHz, 1.71-3.6V, 83 GPIO, LQFP-100; ki_fp_filters: LQFP*14x14mm*P0.5mm*; Footprint: Package_QFP:LQFP-100_14x14mm_P0.5mm; Supplier: http://www.st.com/st-web-ui/static/active/en/resource/technical/document/datasheet/DM00366449.pdf
footprint LQFP-100_14x14mm_P0.5mm
pins: 1 PE2 (io), 2 PE3 (io), 3 PE4 (io), 4 PE5 (io), 5 PE6 (io), 6 VBAT (power), 7 PC13 (io), 8 PC14 (io), 9 PC15 (io), 10 VSS (power), 11 VDD (power), 12 PH0 (in), 13 PH1 (in), 14 NRST (in), 15 PC0 (io), 16 PC1 (io), 17 PC2 (io), 18 PC3 (io), 19 VSSA (power), 20 VREF- (power), 21 VREF+ (io), 22 VDDA (power), 23 PA0 (io), 24 PA1 (io), 25 PA2 (io), 26 PA3 (io), 27 VSS (power), 28 VDD (power), 29 PA4 (io), 30 PA5 (io), 31 PA6 (io), 32 PA7 (io), 33 PC4 (io), 34 PC5 (io), 35 PB0 (io), 36 PB1 (io), 37 PB2 (io), 38 PE7 (io), 39 PE8 (io), 40 PE9 (io), 41 PE10 (io), 42 PE11 (io), 43 PE12 (io), 44 PE13 (io), 45 PE14 (io), 46 PE15 (io), 47 PB10 (io), 48 PB11 (io), 49 VSS (power), 50 VDD (power), 51 PB12 (io), 52 PB13 (io), 53 PB14 (io), 54 PB15 (io), 55 PD8 (io), 56 PD9 (io), 57 PD10 (io), 58 PD11 (io), 59 PD12 (io), 60 PD13 (io), 61 PD14 (io), 62 PD15 (io), 63 PC6 (io), 64 PC7 (io), 65 PC8 (io), 66 PC9 (io), 67 PA8 (io), 68 PA9 (io), 69 PA10 (io), 70 PA11 (io), 71 PA12 (io), 72 PA13 (io), 73 VDDUSB (power), 74 VSS (power), 75 VDD (power), 76 PA14 (io), 77 PA15 (io), 78 PC10 (io), 79 PC11 (io), 80 PC12 (io), 81 PD0 (io), 82 PD1 (io), 83 PD2 (io), 84 PD3 (io), 85 PD4 (io), 86 PD5 (io), 87 PD6 (io), 88 PD7 (io), 89 PB3 (io), 90 PB4 (io), 91 PB5 (io), 92 PB6 (io), 93 PB7 (io), 94 PH3 (io), 95 PB8 (io), 96 PB9 (io), 97 PE0 (io), 98 PE1 (io), 99 VSS (power), 100 VDD (power)

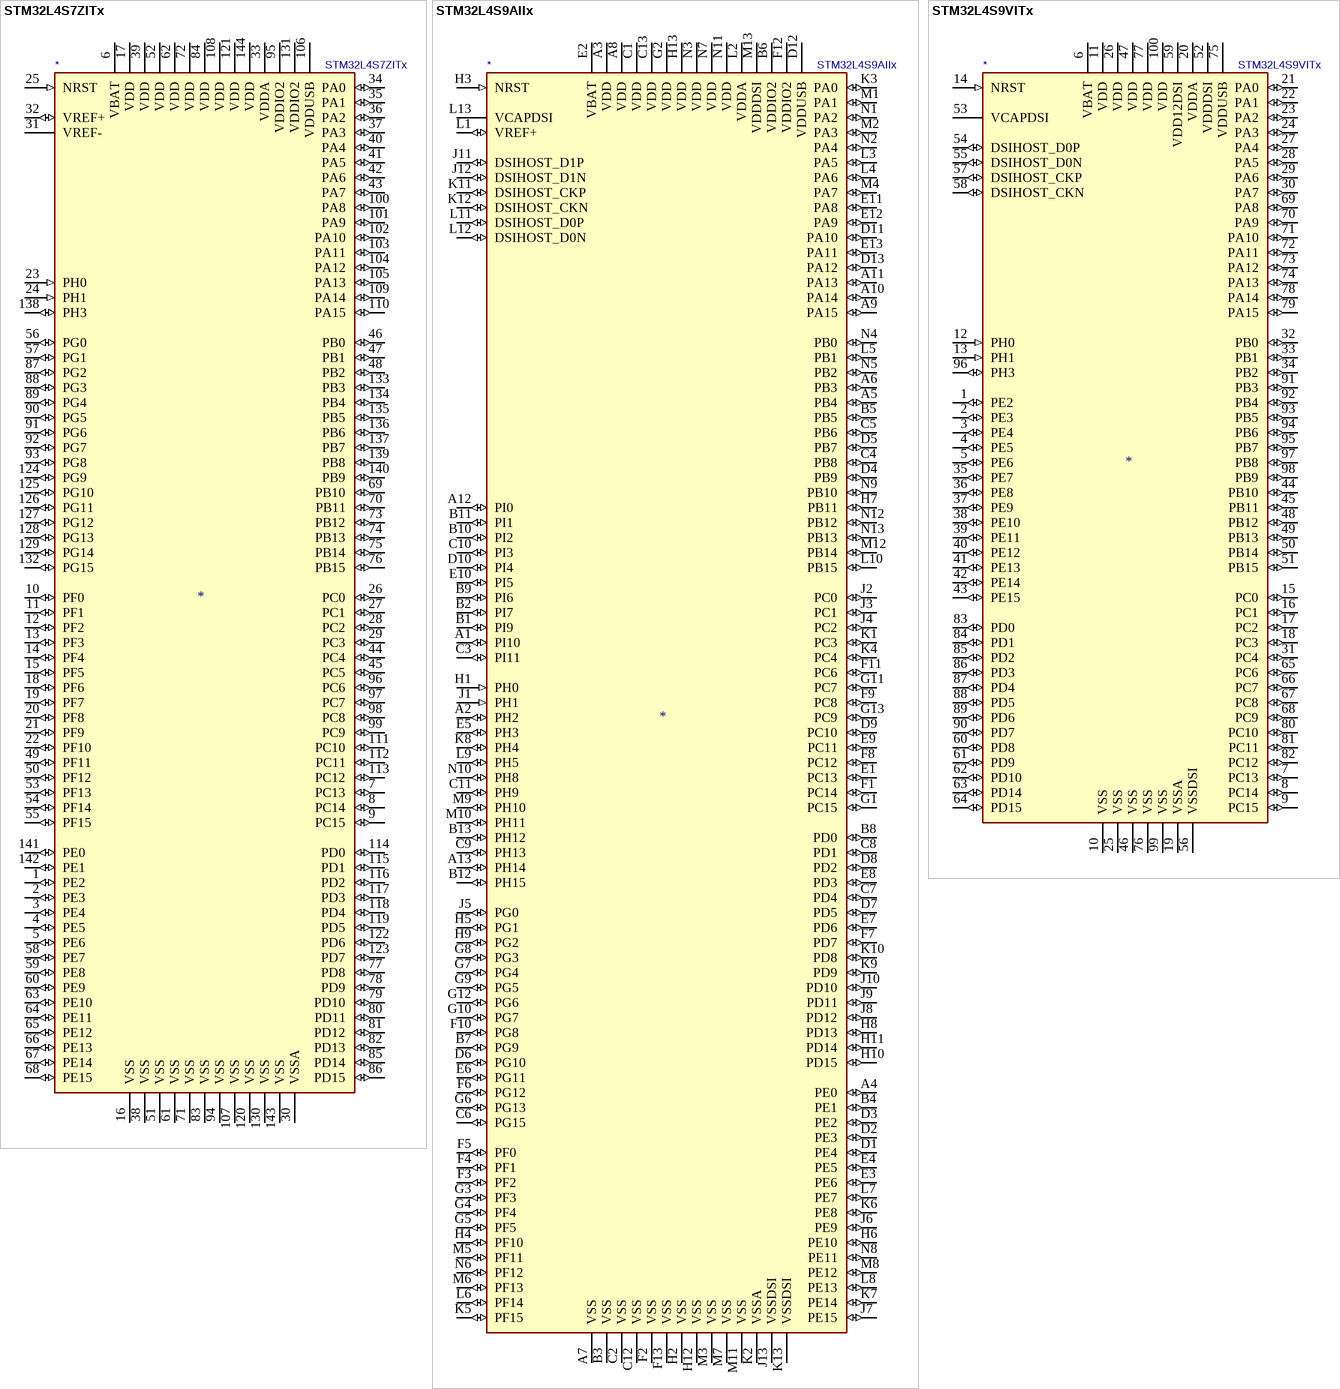
[diagram p10: symbols STM32L4S7ZITx to STM32L4S9VITx]

## STM32L4S7ZITx
designator *  value STM32L4S7ZITx
ki_keywords: ARM Cortex-M4 STM32L4+ STM32L4R7/S7; ki_description: ARM Cortex-M4 MCU, 2048KB flash, 640KB RAM, 120MHz, 1.71-3.6V, 115 GPIO, LQFP-144; ki_fp_filters: LQFP*20x20mm*P0.5mm*; Footprint: Package_QFP:LQFP-144_20x20mm_P0.5mm; Supplier: http://www.st.com/st-web-ui/static/active/en/resource/technical/document/datasheet/DM00366449.pdf
footprint LQFP-144_20x20mm_P0.5mm
pins: 1 PE2 (io), 2 PE3 (io), 3 PE4 (io), 4 PE5 (io), 5 PE6 (io), 6 VBAT (power), 7 PC13 (io), 8 PC14 (io), 9 PC15 (io), 10 PF0 (io), 11 PF1 (io), 12 PF2 (io), 13 PF3 (io), 14 PF4 (io), 15 PF5 (io), 16 VSS (power), 17 VDD (power), 18 PF6 (io), 19 PF7 (io), 20 PF8 (io), 21 PF9 (io), 22 PF10 (io), 23 PH0 (in), 24 PH1 (in), 25 NRST (in), 26 PC0 (io), 27 PC1 (io), 28 PC2 (io), 29 PC3 (io), 30 VSSA (power), 31 VREF- (power), 32 VREF+ (io), 33 VDDA (power), 34 PA0 (io), 35 PA1 (io), 36 PA2 (io), 37 PA3 (io), 38 VSS (power), 39 VDD (power), 40 PA4 (io), 41 PA5 (io), 42 PA6 (io), 43 PA7 (io), 44 PC4 (io), 45 PC5 (io), 46 PB0 (io), 47 PB1 (io), 48 PB2 (io), 49 PF11 (io), 50 PF12 (io), 51 VSS (power), 52 VDD (power), 53 PF13 (io), 54 PF14 (io), 55 PF15 (io), 56 PG0 (io), 57 PG1 (io), 58 PE7 (io), 59 PE8 (io), 60 PE9 (io), 61 VSS (power), 62 VDD (power), 63 PE10 (io), 64 PE11 (io), 65 PE12 (io), 66 PE13 (io), 67 PE14 (io), 68 PE15 (io), 69 PB10 (io), 70 PB11 (io), 71 VSS (power), 72 VDD (power), 73 PB12 (io), 74 PB13 (io), 75 PB14 (io), 76 PB15 (io), 77 PD8 (io), 78 PD9 (io), 79 PD10 (io), 80 PD11 (io), 81 PD12 (io), 82 PD13 (io), 83 VSS (power), 84 VDD (power), 85 PD14 (io), 86 PD15 (io), 87 PG2 (io), 88 PG3 (io), 89 PG4 (io), 90 PG5 (io), 91 PG6 (io), 92 PG7 (io), 93 PG8 (io), 94 VSS (power), 95 VDDIO2 (power), 96 PC6 (io), 97 PC7 (io), 98 PC8 (io), 99 PC9 (io), 100 PA8 (io), 101 PA9 (io), 102 PA10 (io), 103 PA11 (io), 104 PA12 (io), 105 PA13 (io), 106 VDDUSB (power), 107 VSS (power), 108 VDD (power), 109 PA14 (io), 110 PA15 (io), 111 PC10 (io), 112 PC11 (io), 113 PC12 (io), 114 PD0 (io), 115 PD1 (io), 116 PD2 (io), 117 PD3 (io), 118 PD4 (io), 119 PD5 (io), 120 VSS (power), 121 VDD (power), 122 PD6 (io), 123 PD7 (io), 124 PG9 (io), 125 PG10 (io), 126 PG11 (io), 127 PG12 (io), 128 PG13 (io), 129 PG14 (io), 130 VSS (power), 131 VDDIO2 (power), 132 PG15 (io), 133 PB3 (io), 134 PB4 (io), 135 PB5 (io), 136 PB6 (io), 137 PB7 (io), 138 PH3 (io), 139 PB8 (io), 140 PB9 (io), 141 PE0 (io), 142 PE1 (io), 143 VSS (power), 144 VDD (power)

## STM32L4S9AIIx
designator *  value STM32L4S9AIIx
ki_keywords: ARM Cortex-M4 STM32L4+ STM32L4R9/S9; ki_description: ARM Cortex-M4 MCU, 2048KB flash, 640KB RAM, 120MHz, 1.71-3.6V, 131 GPIO, UFBGA-169; ki_fp_filters: UFBGA*7x7mm*Layout13x13*P0.5mm*; Footprint: Package_BGA:UFBGA-169_7x7mm_Layout13x13_P0.5mm; Supplier: http://www.st.com/st-web-ui/static/active/en/resource/technical/document/datasheet/DM00366449.pdf
footprint UFBGA-169_7x7mm_Layout13x13_P0.5mm
pins: A1 PI10 (io), A2 PH2 (io), A3 VDD (power), A4 PE0 (io), A5 PB4 (io), A6 PB3 (io), A7 VSS (power), A8 VDD (power), A9 PA15 (io), A10 PA14 (io), A11 PA13 (io), A12 PI0 (io), A13 PH14 (io), B1 PI9 (io), B2 PI7 (io), B3 VSS (power), B4 PE1 (io), B5 PB5 (io), B6 VDDIO2 (power), B7 PG9 (io), B8 PD0 (io), B9 PI6 (io), B10 PI2 (io), B11 PI1 (io), B12 PH15 (io), B13 PH12 (io), C1 VDD (power), C2 VSS (power), C3 PI11 (io), C4 PB8 (io), C5 PB6 (io), C6 PG15 (io), C7 PD4 (io), C8 PD1 (io), C9 PH13 (io), C10 PI3 (io), C11 PH9 (io), C12 VSS (power), C13 VDD (power), D1 PE4 (io), D2 PE3 (io), D3 PE2 (io), D4 PB9 (io), D5 PB7 (io), D6 PG10 (io), D7 PD5 (io), D8 PD2 (io), D9 PC10 (io), D10 PI4 (io), D11 PA10 (io), D12 VDDUSB (power), D13 PA12 (io), E1 PC13 (io), E2 VBAT (power), E3 PE6 (io), E4 PE5 (io), E5 PH3 (io), E6 PG11 (io), E7 PD6 (io), E8 PD3 (io), E9 PC11 (io), E10 PI5 (io), E11 PA8 (io), E12 PA9 (io), E13 PA11 (io), F1 PC14 (io), F2 VSS (power), F3 PF2 (io), F4 PF1 (io), F5 PF0 (io), F6 PG12 (io), F7 PD7 (io), F8 PC12 (io), F9 PC8 (io), F10 PG8 (io), F11 PC6 (io), F12 VDDIO2 (power), F13 VSS (power), G1 PC15 (io), G2 VDD (power), G3 PF3 (io), G4 PF4 (io), G5 PF5 (io), G6 PG13 (io), G7 PG4 (io), G8 PG3 (io), G9 PG5 (io), G10 PG7 (io), G11 PC7 (io), G12 PG6 (io), G13 PC9 (io), H1 PH0 (in), H2 VSS (power), H3 NRST (in), H4 PF10 (io), H5 PG1 (io), H6 PE10 (io), H7 PB11 (io), H8 PD13 (io), H9 PG2 (io), H10 PD15 (io), H11 PD14 (io), H12 VSS (power), H13 VDD (power), J1 PH1 (in), J2 PC0 (io), J3 PC1 (io), J4 PC2 (io), J5 PG0 (io), J6 PE9 (io), J7 PE15 (io), J8 PD12 (io), J9 PD11 (io), J10 PD10 (io), J11 DSIHOST_D1P (io), J12 DSIHOST_D1N (io), J13 VSSDSI (power), K1 PC3 (io), K2 VSSA (power), K3 PA0 (io), K4 PC4 (io), K5 PF15 (io), K6 PE8 (io), K7 PE14 (io), K8 PH4 (io), K9 PD9 (io), K10 PD8 (io), K11 DSIHOST_CKP (io), K12 DSIHOST_CKN (io), K13 VSSDSI (power), L1 VREF+ (io), L2 VDDA (power), L3 PA5 (io), L4 PA6 (io), L5 PB1 (io), L6 PF14 (io), L7 PE7 (io), L8 PE13 (io), L9 PH5 (io), L10 PB15 (io), L11 DSIHOST_D0P (io), L12 DSIHOST_D0N (io), L13 VCAPDSI (power), M1 PA1 (io), M2 PA3 (io), M3 VSS (power), M4 PA7 (io), M5 PF11 (io), M6 PF13 (io), M7 VSS (power), M8 PE12 (io), M9 PH10 (io), M10 PH11 (io), M11 VSS (power), M12 PB14 (io), M13 VDDDSI (power), N1 PA2 (io), N2 PA4 (io), N3 VDD (power), N4 PB0 (io), N5 PB2 (io), N6 PF12 (io), N7 VDD (power), N8 PE11 (io), N9 PB10 (io), N10 PH8 (io), N11 VDD (power), N12 PB12 (io), N13 PB13 (io)

## STM32L4S9VITx
designator *  value STM32L4S9VITx
ki_keywords: ARM Cortex-M4 STM32L4+ STM32L4R9/S9; ki_description: ARM Cortex-M4 MCU, 2048KB flash, 640KB RAM, 120MHz, 1.71-3.6V, 77 GPIO, LQFP-100; ki_fp_filters: LQFP*14x14mm*P0.5mm*; Footprint: Package_QFP:LQFP-100_14x14mm_P0.5mm; Supplier: http://www.st.com/st-web-ui/static/active/en/resource/technical/document/datasheet/DM00366449.pdf
footprint LQFP-100_14x14mm_P0.5mm
pins: 1 PE2 (io), 2 PE3 (io), 3 PE4 (io), 4 PE5 (io), 5 PE6 (io), 6 VBAT (power), 7 PC13 (io), 8 PC14 (io), 9 PC15 (io), 10 VSS (power), 11 VDD (power), 12 PH0 (in), 13 PH1 (in), 14 NRST (in), 15 PC0 (io), 16 PC1 (io), 17 PC2 (io), 18 PC3 (io), 19 VSSA (power), 20 VDDA (power), 21 PA0 (io), 22 PA1 (io), 23 PA2 (io), 24 PA3 (io), 25 VSS (power), 26 VDD (power), 27 PA4 (io), 28 PA5 (io), 29 PA6 (io), 30 PA7 (io), 31 PC4 (io), 32 PB0 (io), 33 PB1 (io), 34 PB2 (io), 35 PE7 (io), 36 PE8 (io), 37 PE9 (io), 38 PE10 (io), 39 PE11 (io), 40 PE12 (io), 41 PE13 (io), 42 PE14 (io), 43 PE15 (io), 44 PB10 (io), 45 PB11 (io), 46 VSS (power), 47 VDD (power), 48 PB12 (io), 49 PB13 (io), 50 PB14 (io), 51 PB15 (io), 52 VDDDSI (power), 53 VCAPDSI (power), 54 DSIHOST_D0P (io), 55 DSIHOST_D0N (io), 56 VSSDSI (power), 57 DSIHOST_CKP (io), 58 DSIHOST_CKN (io), 59 VDD12DSI (power), 60 PD8 (io), 61 PD9 (io), 62 PD10 (io), 63 PD14 (io), 64 PD15 (io), 65 PC6 (io), 66 PC7 (io), 67 PC8 (io), 68 PC9 (io), 69 PA8 (io), 70 PA9 (io), 71 PA10 (io), 72 PA11 (io), 73 PA12 (io), 74 PA13 (io), 75 VDDUSB (power), 76 VSS (power), 77 VDD (power), 78 PA14 (io), 79 PA15 (io), 80 PC10 (io), 81 PC11 (io), 82 PC12 (io), 83 PD0 (io), 84 PD1 (io), 85 PD2 (io), 86 PD3 (io), 87 PD4 (io), 88 PD5 (io), 89 PD6 (io), 90 PD7 (io), 91 PB3 (io), 92 PB4 (io), 93 PB5 (io), 94 PB6 (io), 95 PB7 (io), 96 PH3 (io), 97 PB8 (io), 98 PB9 (io), 99 VSS (power), 100 VDD (power)

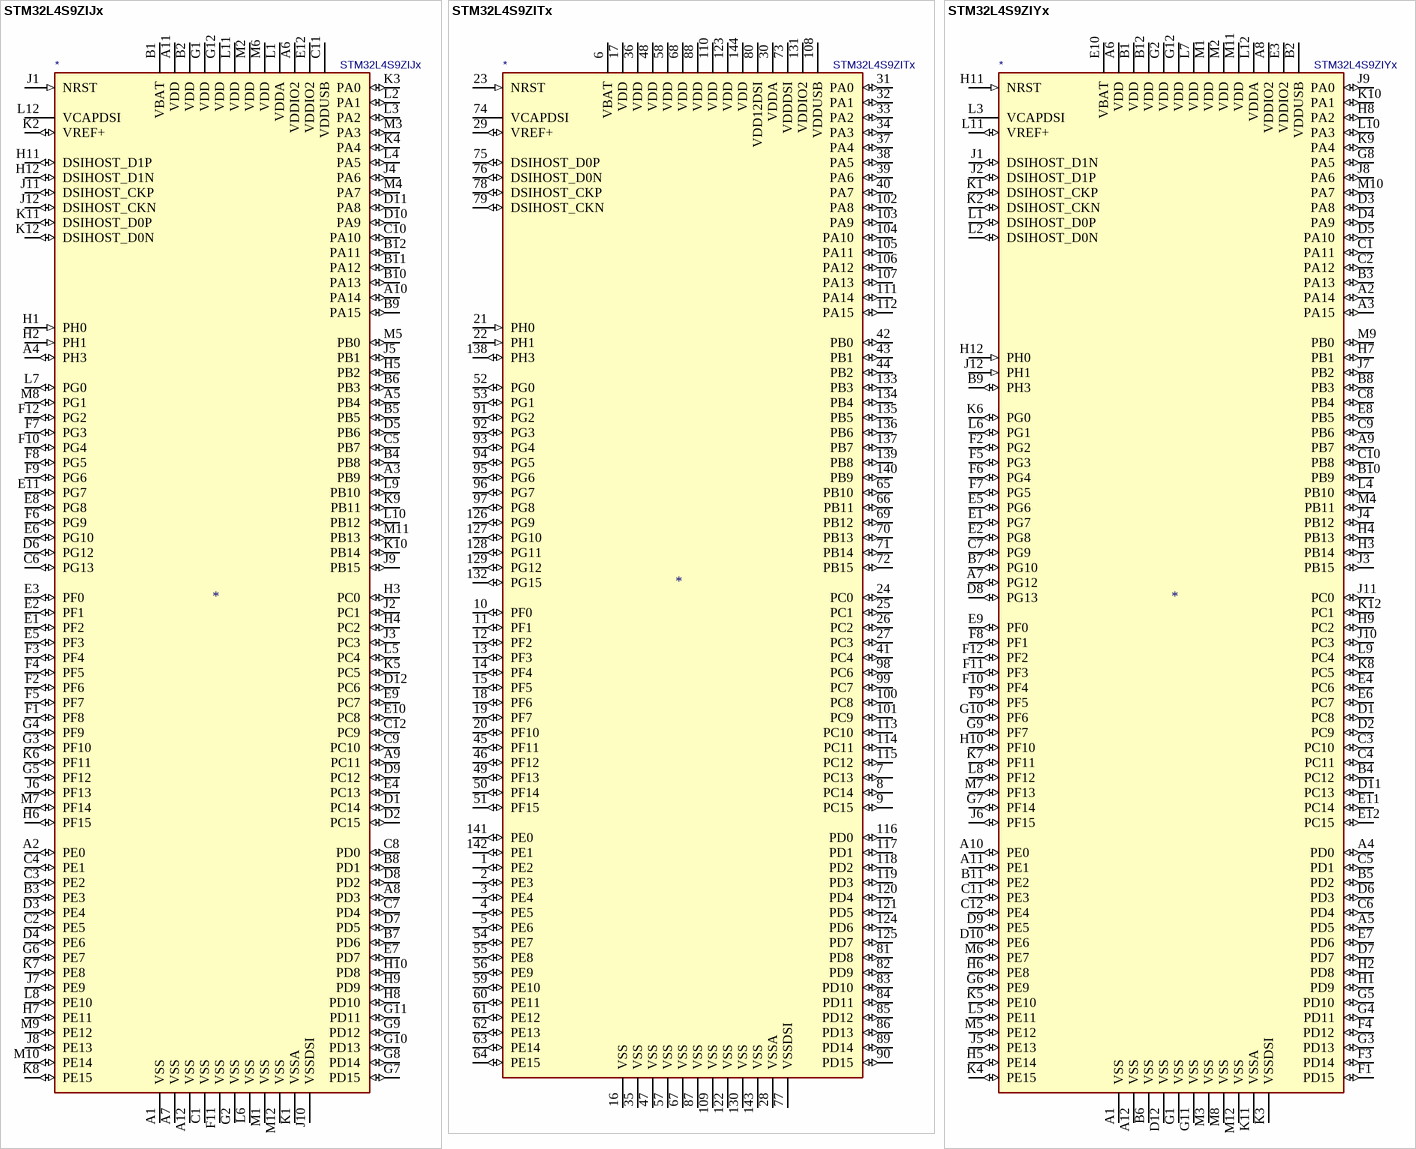
[diagram p11: symbols STM32L4S9ZIJx to STM32L4S9ZIYx]

## STM32L4S9ZIJx
designator *  value STM32L4S9ZIJx
ki_keywords: ARM Cortex-M4 STM32L4+ STM32L4R9/S9; ki_description: ARM Cortex-M4 MCU, 2048KB flash, 640KB RAM, 120MHz, 1.71-3.6V, 112 GPIO, UFBGA-144; ki_fp_filters: UFBGA*10x10mm*Layout12x12*P0.8mm*; Footprint: Package_BGA:UFBGA-144_10x10mm_Layout12x12_P0.8mm; Supplier: http://www.st.com/st-web-ui/static/active/en/resource/technical/document/datasheet/DM00366449.pdf
footprint UFBGA-144_10x10mm_Layout12x12_P0.8mm
pins: A1 VSS (power), A2 PE0 (io), A3 PB9 (io), A4 PH3 (io), A5 PB4 (io), A6 VDDIO2 (power), A7 VSS (power), A8 PD3 (io), A9 PC11 (io), A10 PA14 (io), A11 VDD (power), A12 VSS (power), B1 VBAT (power), B2 VDD (power), B3 PE3 (io), B4 PB8 (io), B5 PB5 (io), B6 PB3 (io), B7 PD6 (io), B8 PD1 (io), B9 PA15 (io), B10 PA13 (io), B11 PA12 (io), B12 PA11 (io), C1 VSS (power), C2 PE5 (io), C3 PE2 (io), C4 PE1 (io), C5 PB7 (io), C6 PG13 (io), C7 PD4 (io), C8 PD0 (io), C9 PC10 (io), C10 PA10 (io), C11 VDDUSB (power), C12 PC9 (io), D1 PC14 (io), D2 PC15 (io), D3 PE4 (io), D4 PE6 (io), D5 PB6 (io), D6 PG12 (io), D7 PD5 (io), D8 PD2 (io), D9 PC12 (io), D10 PA9 (io), D11 PA8 (io), D12 PC6 (io), E1 PF2 (io), E2 PF1 (io), E3 PF0 (io), E4 PC13 (io), E5 PF3 (io), E6 PG10 (io), E7 PD7 (io), E8 PG8 (io), E9 PC7 (io), E10 PC8 (io), E11 PG7 (io), E12 VDDIO2 (power), F1 PF8 (io), F2 PF6 (io), F3 PF4 (io), F4 PF5 (io), F5 PF7 (io), F6 PG9 (io), F7 PG3 (io), F8 PG5 (io), F9 PG6 (io), F10 PG4 (io), F11 VSS (power), F12 PG2 (io), G1 VDD (power), G2 VSS (power), G3 PF10 (io), G4 PF9 (io), G5 PF12 (io), G6 PE7 (io), G7 PD15 (io), G8 PD14 (io), G9 PD12 (io), G10 PD13 (io), G11 PD11 (io), G12 VDD (power), H1 PH0 (in), H2 PH1 (in), H3 PC0 (io), H4 PC2 (io), H5 PB2 (io), H6 PF15 (io), H7 PE11 (io), H8 PD10 (io), H9 PD9 (io), H10 PD8 (io), H11 DSIHOST_D1P (io), H12 DSIHOST_D1N (io), J1 NRST (in), J2 PC1 (io), J3 PC3 (io), J4 PA6 (io), J5 PB1 (io), J6 PF13 (io), J7 PE9 (io), J8 PE13 (io), J9 PB15 (io), J10 VSSDSI (power), J11 DSIHOST_CKP (io), J12 DSIHOST_CKN (io), K1 VSSA (power), K2 VREF+ (io), K3 PA0 (io), K4 PA4 (io), K5 PC5 (io), K6 PF11 (io), K7 PE8 (io), K8 PE15 (io), K9 PB11 (io), K10 PB14 (io), K11 DSIHOST_D0P (io), K12 DSIHOST_D0N (io), L1 VDDA (power), L2 PA1 (io), L3 PA2 (io), L4 PA5 (io), L5 PC4 (io), L6 VSS (power), L7 PG0 (io), L8 PE10 (io), L9 PB10 (io), L10 PB12 (io), L11 VDD (power), L12 VCAPDSI (power), M1 VSS (power), M2 VDD (power), M3 PA3 (io), M4 PA7 (io), M5 PB0 (io), M6 VDD (power), M7 PF14 (io), M8 PG1 (io), M9 PE12 (io), M10 PE14 (io), M11 PB13 (io), M12 VSS (power)

## STM32L4S9ZITx
designator *  value STM32L4S9ZITx
ki_keywords: ARM Cortex-M4 STM32L4+ STM32L4R9/S9; ki_description: ARM Cortex-M4 MCU, 2048KB flash, 640KB RAM, 120MHz, 1.71-3.6V, 110 GPIO, LQFP-144; ki_fp_filters: LQFP*20x20mm*P0.5mm*; Footprint: Package_QFP:LQFP-144_20x20mm_P0.5mm; Supplier: http://www.st.com/st-web-ui/static/active/en/resource/technical/document/datasheet/DM00366449.pdf
footprint LQFP-144_20x20mm_P0.5mm
pins: 1 PE2 (io), 2 PE3 (io), 3 PE4 (io), 4 PE5 (io), 5 PE6 (io), 6 VBAT (power), 7 PC13 (io), 8 PC14 (io), 9 PC15 (io), 10 PF0 (io), 11 PF1 (io), 12 PF2 (io), 13 PF3 (io), 14 PF4 (io), 15 PF5 (io), 16 VSS (power), 17 VDD (power), 18 PF6 (io), 19 PF7 (io), 20 PF10 (io), 21 PH0 (in), 22 PH1 (in), 23 NRST (in), 24 PC0 (io), 25 PC1 (io), 26 PC2 (io), 27 PC3 (io), 28 VSSA (power), 29 VREF+ (io), 30 VDDA (power), 31 PA0 (io), 32 PA1 (io), 33 PA2 (io), 34 PA3 (io), 35 VSS (power), 36 VDD (power), 37 PA4 (io), 38 PA5 (io), 39 PA6 (io), 40 PA7 (io), 41 PC4 (io), 42 PB0 (io), 43 PB1 (io), 44 PB2 (io), 45 PF11 (io), 46 PF12 (io), 47 VSS (power), 48 VDD (power), 49 PF13 (io), 50 PF14 (io), 51 PF15 (io), 52 PG0 (io), 53 PG1 (io), 54 PE7 (io), 55 PE8 (io), 56 PE9 (io), 57 VSS (power), 58 VDD (power), 59 PE10 (io), 60 PE11 (io), 61 PE12 (io), 62 PE13 (io), 63 PE14 (io), 64 PE15 (io), 65 PB10 (io), 66 PB11 (io), 67 VSS (power), 68 VDD (power), 69 PB12 (io), 70 PB13 (io), 71 PB14 (io), 72 PB15 (io), 73 VDDDSI (power), 74 VCAPDSI (power), 75 DSIHOST_D0P (io), 76 DSIHOST_D0N (io), 77 VSSDSI (power), 78 DSIHOST_CKP (io), 79 DSIHOST_CKN (io), 80 VDD12DSI (power), 81 PD8 (io), 82 PD9 (io), 83 PD10 (io), 84 PD11 (io), 85 PD12 (io), 86 PD13 (io), 87 VSS (power), 88 VDD (power), 89 PD14 (io), 90 PD15 (io), 91 PG2 (io), 92 PG3 (io), 93 PG4 (io), 94 PG5 (io), 95 PG6 (io), 96 PG7 (io), 97 PG8 (io), 98 PC6 (io), 99 PC7 (io), 100 PC8 (io), 101 PC9 (io), 102 PA8 (io), 103 PA9 (io), 104 PA10 (io), 105 PA11 (io), 106 PA12 (io), 107 PA13 (io), 108 VDDUSB (power), 109 VSS (power), 110 VDD (power), 111 PA14 (io), 112 PA15 (io), 113 PC10 (io), 114 PC11 (io), 115 PC12 (io), 116 PD0 (io), 117 PD1 (io), 118 PD2 (io), 119 PD3 (io), 120 PD4 (io), 121 PD5 (io), 122 VSS (power), 123 VDD (power), 124 PD6 (io), 125 PD7 (io), 126 PG9 (io), 127 PG10 (io), 128 PG11 (io), 129 PG12 (io), 130 VSS (power), 131 VDDIO2 (power), 132 PG15 (io), 133 PB3 (io), 134 PB4 (io), 135 PB5 (io), 136 PB6 (io), 137 PB7 (io), 138 PH3 (io), 139 PB8 (io), 140 PB9 (io), 141 PE0 (io), 142 PE1 (io), 143 VSS (power), 144 VDD (power)

## STM32L4S9ZIYx
designator *  value STM32L4S9ZIYx
ki_keywords: ARM Cortex-M4 STM32L4+ STM32L4R9/S9; ki_description: ARM Cortex-M4 MCU, 2048KB flash, 640KB RAM, 120MHz, 1.71-3.6V, 110 GPIO, WLCSP-144; ki_fp_filters: ST_WLCSP*Die470*; Footprint: Package_CSP:ST_WLCSP-144_Die470; Supplier: http://www.st.com/st-web-ui/static/active/en/resource/technical/document/datasheet/DM00366449.pdf
footprint ST_WLCSP-144_Die470
pins: A1 VSS (power), A2 PA14 (io), A3 PA15 (io), A4 PD0 (io), A5 PD5 (io), A6 VDD (power), A7 PG12 (io), A8 VDDIO2 (power), A9 PB7 (io), A10 PE0 (io), A11 PE1 (io), A12 VSS (power), B1 VDD (power), B2 VDDUSB (power), B3 PA13 (io), B4 PC12 (io), B5 PD2 (io), B6 VSS (power), B7 PG10 (io), B8 PB3 (io), B9 PH3 (io), B10 PB9 (io), B11 PE2 (io), B12 VDD (power), C1 PA11 (io), C2 PA12 (io), C3 PC10 (io), C4 PC11 (io), C5 PD1 (io), C6 PD4 (io), C7 PG9 (io), C8 PB4 (io), C9 PB6 (io), C10 PB8 (io), C11 PE3 (io), C12 PE4 (io), D1 PC8 (io), D2 PC9 (io), D3 PA8 (io), D4 PA9 (io), D5 PA10 (io), D6 PD3 (io), D7 PD7 (io), D8 PG13 (io), D9 PE5 (io), D10 PE6 (io), D11 PC13 (io), D12 VSS (power), E1 PG7 (io), E2 PG8 (io), E3 VDDIO2 (power), E4 PC6 (io), E5 PG6 (io), E6 PC7 (io), E7 PD6 (io), E8 PB5 (io), E9 PF0 (io), E10 VBAT (power), E11 PC14 (io), E12 PC15 (io), F1 PD15 (io), F2 PG2 (io), F3 PD14 (io), F4 PD12 (io), F5 PG3 (io), F6 PG4 (io), F7 PG5 (io), F8 PF1 (io), F9 PF5 (io), F10 PF4 (io), F11 PF3 (io), F12 PF2 (io), G1 VSS (power), G2 VDD (power), G3 PD13 (io), G4 PD11 (io), G5 PD10 (io), G6 PE9 (io), G7 PF14 (io), G8 PA5 (io), G9 PF7 (io), G10 PF6 (io), G11 VSS (power), G12 VDD (power), H1 PD9 (io), H2 PD8 (io), H3 PB14 (io), H4 PB13 (io), H5 PE14 (io), H6 PE8 (io), H7 PB1 (io), H8 PA2 (io), H9 PC2 (io), H10 PF10 (io), H11 NRST (in), H12 PH0 (in), J1 DSIHOST_D1N (io), J2 DSIHOST_D1P (io), J3 PB15 (io), J4 PB12 (io), J5 PE13 (io), J6 PF15 (io), J7 PB2 (io), J8 PA6 (io), J9 PA0 (io), J10 PC3 (io), J11 PC0 (io), J12 PH1 (in), K1 DSIHOST_CKP (io), K2 DSIHOST_CKN (io), K3 VSSDSI (power), K4 PE15 (io), K5 PE10 (io), K6 PG0 (io), K7 PF11 (io), K8 PC5 (io), K9 PA4 (io), K10 PA1 (io), K11 VSSA (power), K12 PC1 (io), L1 DSIHOST_D0P (io), L2 DSIHOST_D0N (io), L3 VCAPDSI (power), L4 PB10 (io), L5 PE11 (io), L6 PG1 (io), L7 VDD (power), L8 PF12 (io), L9 PC4 (io), L10 PA3 (io), L11 VREF+ (io), L12 VDDA (power), M1 VDD (power), M2 VDD (power), M3 VSS (power), M4 PB11 (io), M5 PE12 (io), M6 PE7 (io), M7 PF13 (io), M8 VSS (power), M9 PB0 (io), M10 PA7 (io), M11 VDD (power), M12 VSS (power)